# EAGLE library part CTIJTAG (library CTIJTAG)
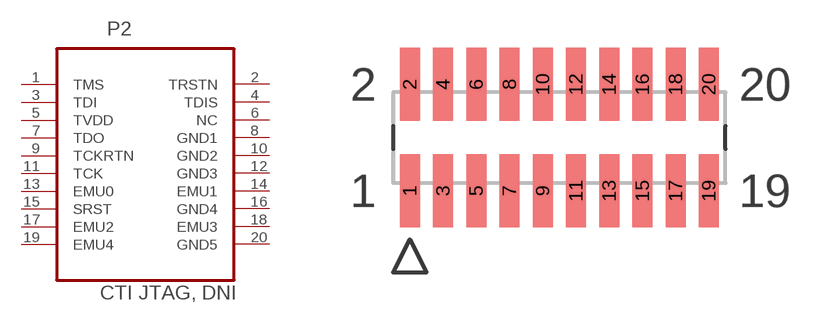
[diagram p0: symbol with the pads of CTIJTAG; footprint CTIJTAG]

Designator prefix -

## CTIJTAG  [CTIJTAG]
1  TMS  pas
2  TRSTN  pas
3  TDI  pas
4  TDIS  pas
5  TVDD  pas
6  NC  pas
7  TDO  pas
8  GND1  pas
9  TCKRTN  pas
10  GND2  pas
11  TCK  pas
12  GND3  pas
13  EMU0  pas
14  EMU1  pas
15  SRST  pas
16  GND4  pas
17  EMU2  pas
18  EMU3  pas
19  EMU4  pas
20  GND5  pas

## Footprint CTIJTAG (pad centres in mm)
smd 0.762 x 2.794: 1 -18.415,0.508; 2 -18.415,4.572; 3 -17.145,0.508; 4 -17.145,4.572; 5 -15.875,0.508; 6 -15.875,4.572; 7 -14.605,0.508; 8 -14.605,4.572; 9 -13.335,0.508; 10 -13.335,4.572; 11 -12.065,0.508; 12 -12.065,4.572; 13 -10.795,0.508; 14 -10.795,4.572; 15 -9.525,0.508; 16 -9.525,4.572; 17 -8.255,0.508; 18 -8.255,4.572; 19 -6.985,0.508; 20 -6.985,4.572